# Altium schematic symbol library MCU_SiliconLabs.SchLib: 48 symbols
Pins are listed as number, name and electrical type; pins without a type are passive.

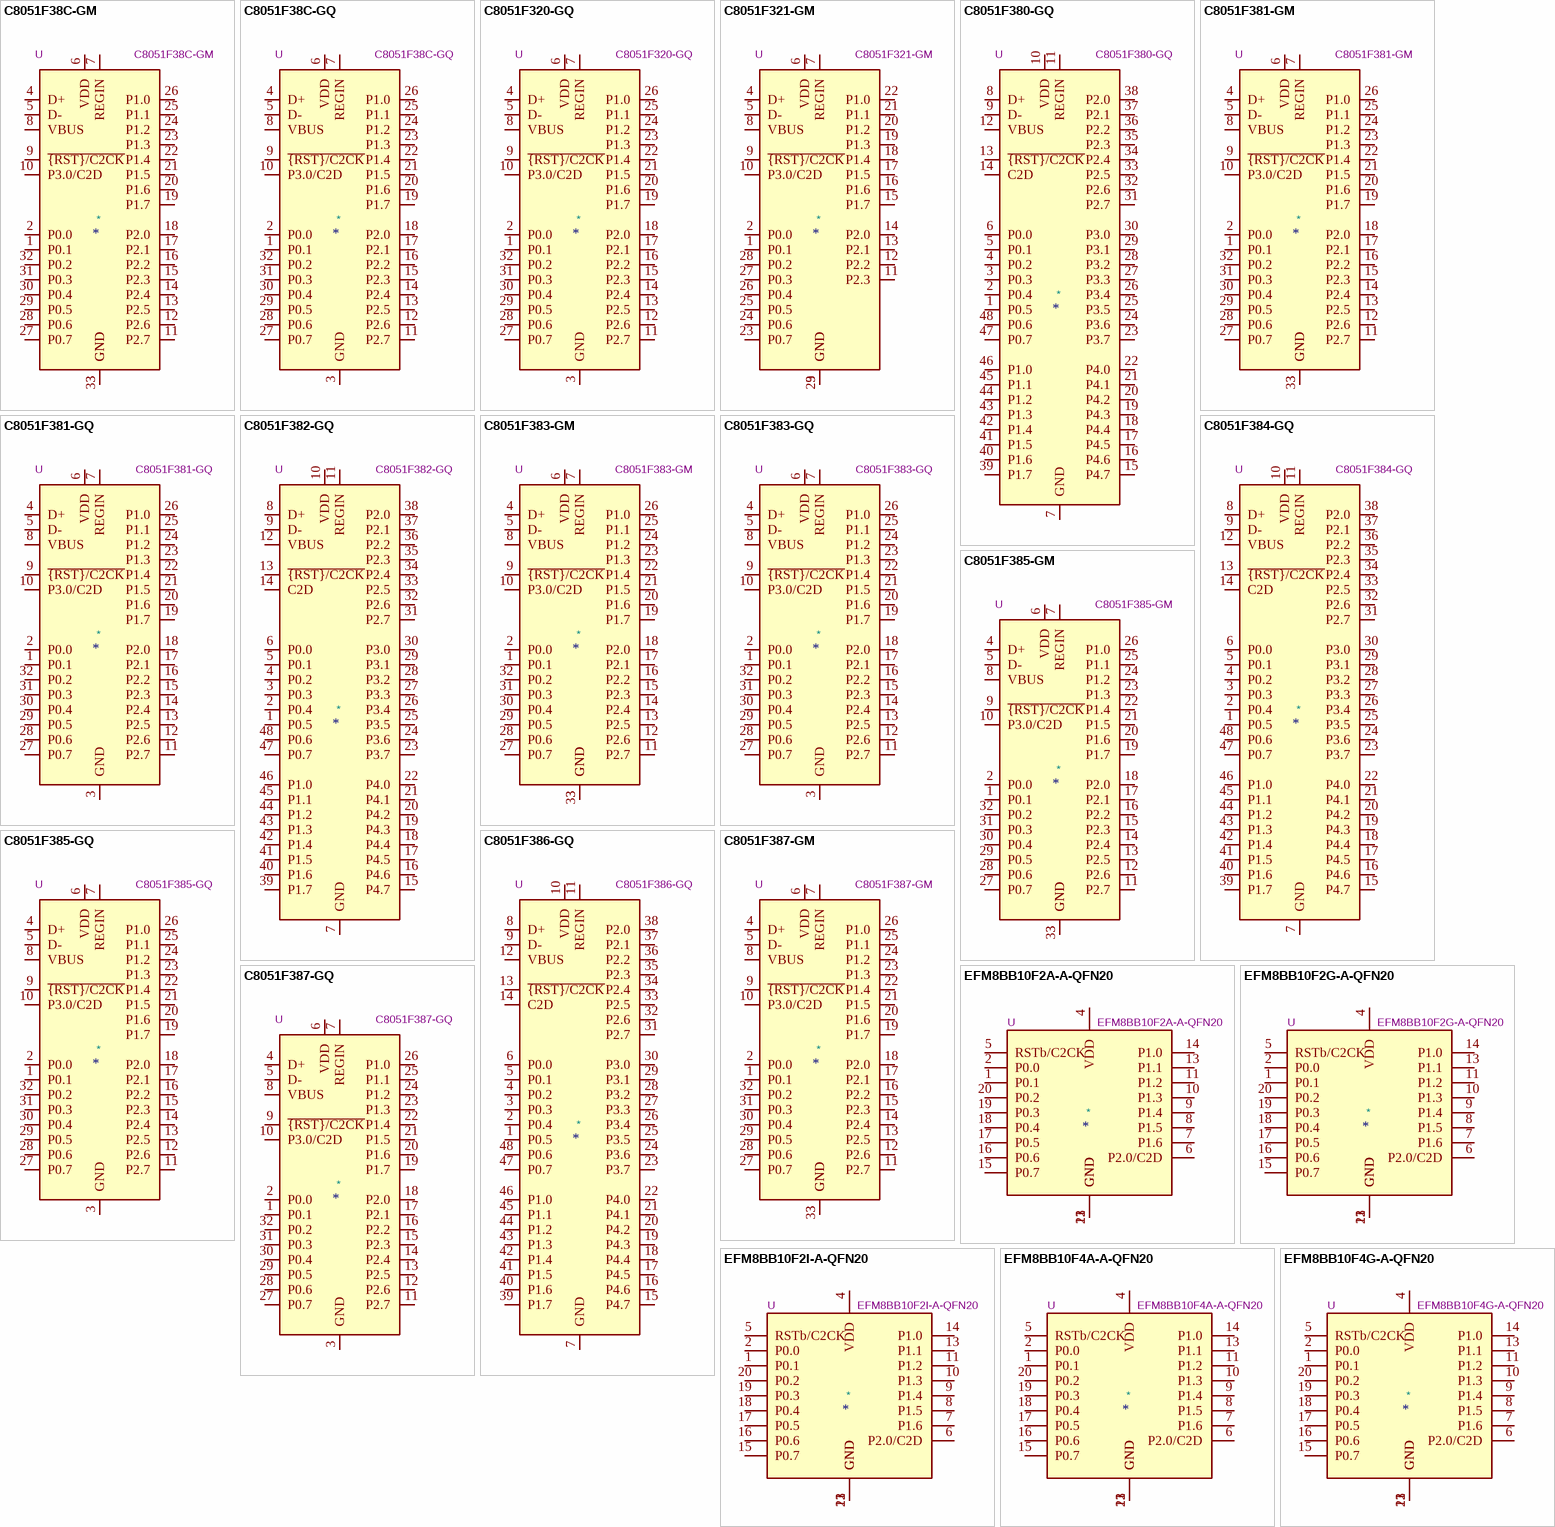
[diagram p0: symbols C8051F38C-GM to EFM8BB10F4G-A-QFN20]

## C8051F38C-GM
designator *  value C8051F38C-GM  Reference: U
Full Speed USB Flash MCU Family, 16k flash, 2304 ram, 25 IO, ADC, Temperature, VREF, QFN-32; ki_keywords: 8051 microcontroller PCA UART USB SPI I2C ADC QFN32; ki_fp_filters: QFN*1EP*5x5mm*P0.5mm*; Footprint: Package_DFN_QFN:QFN-32-1EP_5x5mm_P0.5mm_EP3.3x3.3mm; Datasheet: https://www.silabs.com/documents/public/data-sheets/C8051F38x.pdf; Description_: Full Speed USB Flash MCU Family, 16k flash, 2304 ram, 25 IO, ADC, Temperature, VREF, QFN-32
pins: 1 P0.1, 2 P0.0, 3 GND, 4 D+, 5 D-, 6 VDD, 7 REGIN, 8 VBUS, 9 ~{{RST}/C2CK}, 10 P3.0/C2D, 11 P2.7, 12 P2.6, 13 P2.5, 14 P2.4, 15 P2.3, 16 P2.2, 17 P2.1, 18 P2.0, 19 P1.7, 20 P1.6, 21 P1.5, 22 P1.4, 23 P1.3, 24 P1.2, 25 P1.1, 26 P1.0, 27 P0.7, 28 P0.6, 29 P0.5, 30 P0.4, 31 P0.3, 32 P0.2, 33 GND

## C8051F38C-GQ
designator *  value C8051F38C-GQ  Reference: U
Full Speed USB Flash MCU Family, 16k flash, 2304 ram, 25 IO, ADC, Temperature, VREF, LQFP-32; ki_keywords: 8051 microcontroller PCA UART USB SPI I2C ADC LQFP32; ki_fp_filters: LQFP*7x7mm*P0.8mm*; Footprint: Package_QFP:LQFP-32_7x7mm_P0.8mm; Datasheet: https://www.silabs.com/documents/public/data-sheets/C8051F38x.pdf; Description_: Full Speed USB Flash MCU Family, 16k flash, 2304 ram, 25 IO, ADC, Temperature, VREF, LQFP-32
pins: 1 P0.1, 2 P0.0, 3 GND, 4 D+, 5 D-, 6 VDD, 7 REGIN, 8 VBUS, 9 ~{{RST}/C2CK}, 10 P3.0/C2D, 11 P2.7, 12 P2.6, 13 P2.5, 14 P2.4, 15 P2.3, 16 P2.2, 17 P2.1, 18 P2.0, 19 P1.7, 20 P1.6, 21 P1.5, 22 P1.4, 23 P1.3, 24 P1.2, 25 P1.1, 26 P1.0, 27 P0.7, 28 P0.6, 29 P0.5, 30 P0.4, 31 P0.3, 32 P0.2

## C8051F320-GQ
designator *  value C8051F320-GQ  Reference: U
16 KB ISP FLASH MCU Family with Full Speed USB, 2304 bytes internal RAM, 25 port I/O, 10-bit ADC, built-in temperature sensor, fully compatible with MCS-51 instruction set, LQFP-32; ki_keywords: 8051 microcontroller PCA UART SPI SMbus I2C VREF; ki_fp_filters: *LQFP*7x7mm*P0.8mm*; Footprint: Package_QFP:LQFP-32_7x7mm_P0.8mm; Datasheet: https://www.silabs.com/documents/public/data-sheets/C8051F32x.pdf; Description_: 16 KB ISP FLASH MCU Family with Full Speed USB, 2304 bytes internal RAM, 25 port I/O, 10-bit ADC, built-in temperature sensor, fully compatible with MCS-51 instruction set, LQFP-32
pins: 1 P0.1, 2 P0.0, 3 GND, 4 D+, 5 D-, 6 VDD, 7 REGIN, 8 VBUS, 9 ~{{RST}/C2CK}, 10 P3.0/C2D, 11 P2.7, 12 P2.6, 13 P2.5, 14 P2.4, 15 P2.3, 16 P2.2, 17 P2.1, 18 P2.0, 19 P1.7, 20 P1.6, 21 P1.5, 22 P1.4, 23 P1.3, 24 P1.2, 25 P1.1, 26 P1.0, 27 P0.7, 28 P0.6, 29 P0.5, 30 P0.4, 31 P0.3, 32 P0.2

## C8051F321-GM
designator *  value C8051F321-GM  Reference: U
16 KB ISP FLASH MCU Family with Full Speed USB, 2304 bytes internal RAM, 21 port I/O, 10-bit ADC, built-in temperature sensor, fully compatible with MCS-51 instruction set, QFN-28; ki_keywords: 8051 microcontroller PCA UART SPI SMbus I2C VREF; ki_fp_filters: *QFN*1EP*5x5mm*P0.5mm*EP3.25*; Footprint: Package_DFN_QFN:QFN-28-1EP_5x5mm_P0.5mm_EP3.25x3.25mm; Datasheet: https://www.silabs.com/documents/public/data-sheets/C8051F32x.pdf; Description_: 16 KB ISP FLASH MCU Family with Full Speed USB, 2304 bytes internal RAM, 21 port I/O, 10-bit ADC, built-in temperature sensor, fully compatible with MCS-51 instruction set, QFN-28
pins: 1 P0.1, 2 P0.0, 3 GND, 4 D+, 5 D-, 6 VDD, 7 REGIN, 8 VBUS, 9 ~{{RST}/C2CK}, 10 P3.0/C2D, 11 P2.3, 12 P2.2, 13 P2.1, 14 P2.0, 15 P1.7, 16 P1.6, 17 P1.5, 18 P1.4, 19 P1.3, 20 P1.2, 21 P1.1, 22 P1.0, 23 P0.7, 24 P0.6, 25 P0.5, 26 P0.4, 27 P0.3, 28 P0.2, 29 GND

## C8051F380-GQ
designator *  value C8051F380-GQ  Reference: U
Full Speed USB Flash MCU Family, 64k flash, 4352 ram, 40 IO, EMIF, ADC, Temperature, VREF, TQFP-48; ki_keywords: 8051 microcontroller PCA UART USB SPI I2C ADC EMIF TQFP48; ki_fp_filters: TQFP*7x7mm*P0.5mm*; Footprint: Package_QFP:TQFP-48_7x7mm_P0.5mm; Datasheet: https://www.silabs.com/documents/public/data-sheets/C8051F38x.pdf; Description_: Full Speed USB Flash MCU Family, 64k flash, 4352 ram, 40 IO, EMIF, ADC, Temperature, VREF, TQFP-48
pins: 1 P0.5, 2 P0.4, 3 P0.3, 4 P0.2, 5 P0.1, 6 P0.0, 7 GND, 8 D+, 9 D-, 10 VDD, 11 REGIN, 12 VBUS, 13 ~{{RST}/C2CK}, 14 C2D, 15 P4.7, 16 P4.6, 17 P4.5, 18 P4.4, 19 P4.3, 20 P4.2, 21 P4.1, 22 P4.0, 23 P3.7, 24 P3.6, 25 P3.5, 26 P3.4, 27 P3.3, 28 P3.2, 29 P3.1, 30 P3.0, 31 P2.7, 32 P2.6, 33 P2.5, 34 P2.4, 35 P2.3, 36 P2.2, 37 P2.1, 38 P2.0, 39 P1.7, 40 P1.6, 41 P1.5, 42 P1.4, 43 P1.3, 44 P1.2, 45 P1.1, 46 P1.0, 47 P0.7, 48 P0.6

## C8051F381-GM
designator *  value C8051F381-GM  Reference: U
Full Speed USB Flash MCU Family, 64k flash, 4352 ram, 25 IO, ADC, Temperature, VREF, QFN-32; ki_keywords: 8051 microcontroller PCA UART USB SPI I2C ADC QFN32; ki_fp_filters: QFN*1EP*5x5mm*P0.5mm*; Footprint: Package_DFN_QFN:QFN-32-1EP_5x5mm_P0.5mm_EP3.3x3.3mm; Datasheet: https://www.silabs.com/documents/public/data-sheets/C8051F38x.pdf; Description_: Full Speed USB Flash MCU Family, 64k flash, 4352 ram, 25 IO, ADC, Temperature, VREF, QFN-32
pins: 1 P0.1, 2 P0.0, 3 GND, 4 D+, 5 D-, 6 VDD, 7 REGIN, 8 VBUS, 9 ~{{RST}/C2CK}, 10 P3.0/C2D, 11 P2.7, 12 P2.6, 13 P2.5, 14 P2.4, 15 P2.3, 16 P2.2, 17 P2.1, 18 P2.0, 19 P1.7, 20 P1.6, 21 P1.5, 22 P1.4, 23 P1.3, 24 P1.2, 25 P1.1, 26 P1.0, 27 P0.7, 28 P0.6, 29 P0.5, 30 P0.4, 31 P0.3, 32 P0.2, 33 GND

## C8051F381-GQ
designator *  value C8051F381-GQ  Reference: U
Full Speed USB Flash MCU Family, 64k flash, 4352 ram, 25 IO, ADC, Temperature, VREF, LQFP-32; ki_keywords: 8051 microcontroller PCA UART USB SPI I2C ADC LQFP32; ki_fp_filters: LQFP*7x7mm*P0.8mm*; Footprint: Package_QFP:LQFP-32_7x7mm_P0.8mm; Datasheet: https://www.silabs.com/documents/public/data-sheets/C8051F38x.pdf; Description_: Full Speed USB Flash MCU Family, 64k flash, 4352 ram, 25 IO, ADC, Temperature, VREF, LQFP-32
pins: 1 P0.1, 2 P0.0, 3 GND, 4 D+, 5 D-, 6 VDD, 7 REGIN, 8 VBUS, 9 ~{{RST}/C2CK}, 10 P3.0/C2D, 11 P2.7, 12 P2.6, 13 P2.5, 14 P2.4, 15 P2.3, 16 P2.2, 17 P2.1, 18 P2.0, 19 P1.7, 20 P1.6, 21 P1.5, 22 P1.4, 23 P1.3, 24 P1.2, 25 P1.1, 26 P1.0, 27 P0.7, 28 P0.6, 29 P0.5, 30 P0.4, 31 P0.3, 32 P0.2

## C8051F382-GQ
designator *  value C8051F382-GQ  Reference: U
Full Speed USB Flash MCU Family, 32k flash, 2304 ram, 40 IO, EMIF, ADC, Temperature, VREF, TQFP-48; ki_keywords: 8051 microcontroller PCA UART USB SPI I2C ADC EMIF TQFP48; ki_fp_filters: TQFP*7x7mm*P0.5mm*; Footprint: Package_QFP:TQFP-48_7x7mm_P0.5mm; Datasheet: https://www.silabs.com/documents/public/data-sheets/C8051F38x.pdf; Description_: Full Speed USB Flash MCU Family, 32k flash, 2304 ram, 40 IO, EMIF, ADC, Temperature, VREF, TQFP-48
pins: 1 P0.5, 2 P0.4, 3 P0.3, 4 P0.2, 5 P0.1, 6 P0.0, 7 GND, 8 D+, 9 D-, 10 VDD, 11 REGIN, 12 VBUS, 13 ~{{RST}/C2CK}, 14 C2D, 15 P4.7, 16 P4.6, 17 P4.5, 18 P4.4, 19 P4.3, 20 P4.2, 21 P4.1, 22 P4.0, 23 P3.7, 24 P3.6, 25 P3.5, 26 P3.4, 27 P3.3, 28 P3.2, 29 P3.1, 30 P3.0, 31 P2.7, 32 P2.6, 33 P2.5, 34 P2.4, 35 P2.3, 36 P2.2, 37 P2.1, 38 P2.0, 39 P1.7, 40 P1.6, 41 P1.5, 42 P1.4, 43 P1.3, 44 P1.2, 45 P1.1, 46 P1.0, 47 P0.7, 48 P0.6

## C8051F383-GM
designator *  value C8051F383-GM  Reference: U
Full Speed USB Flash MCU Family, 32k flash, 2304 ram, 25 IO, ADC, Temperature, VREF, QFN-32; ki_keywords: 8051 microcontroller PCA UART USB SPI I2C ADC QFN32; ki_fp_filters: QFN*1EP*5x5mm*P0.5mm*; Footprint: Package_DFN_QFN:QFN-32-1EP_5x5mm_P0.5mm_EP3.3x3.3mm; Datasheet: https://www.silabs.com/documents/public/data-sheets/C8051F38x.pdf; Description_: Full Speed USB Flash MCU Family, 32k flash, 2304 ram, 25 IO, ADC, Temperature, VREF, QFN-32
pins: 1 P0.1, 2 P0.0, 3 GND, 4 D+, 5 D-, 6 VDD, 7 REGIN, 8 VBUS, 9 ~{{RST}/C2CK}, 10 P3.0/C2D, 11 P2.7, 12 P2.6, 13 P2.5, 14 P2.4, 15 P2.3, 16 P2.2, 17 P2.1, 18 P2.0, 19 P1.7, 20 P1.6, 21 P1.5, 22 P1.4, 23 P1.3, 24 P1.2, 25 P1.1, 26 P1.0, 27 P0.7, 28 P0.6, 29 P0.5, 30 P0.4, 31 P0.3, 32 P0.2, 33 GND

## C8051F383-GQ
designator *  value C8051F383-GQ  Reference: U
Full Speed USB Flash MCU Family, 32k flash, 2304 ram, 25 IO, ADC, Temperature, VREF, LQFP-32; ki_keywords: 8051 microcontroller PCA UART USB SPI I2C ADC LQFP32; ki_fp_filters: LQFP*7x7mm*P0.8mm*; Footprint: Package_QFP:LQFP-32_7x7mm_P0.8mm; Datasheet: https://www.silabs.com/documents/public/data-sheets/C8051F38x.pdf; Description_: Full Speed USB Flash MCU Family, 32k flash, 2304 ram, 25 IO, ADC, Temperature, VREF, LQFP-32
pins: 1 P0.1, 2 P0.0, 3 GND, 4 D+, 5 D-, 6 VDD, 7 REGIN, 8 VBUS, 9 ~{{RST}/C2CK}, 10 P3.0/C2D, 11 P2.7, 12 P2.6, 13 P2.5, 14 P2.4, 15 P2.3, 16 P2.2, 17 P2.1, 18 P2.0, 19 P1.7, 20 P1.6, 21 P1.5, 22 P1.4, 23 P1.3, 24 P1.2, 25 P1.1, 26 P1.0, 27 P0.7, 28 P0.6, 29 P0.5, 30 P0.4, 31 P0.3, 32 P0.2

## C8051F384-GQ
designator *  value C8051F384-GQ  Reference: U
Full Speed USB Flash MCU Family, 64k flash, 4352 ram, 40 IO, EMIF, TQFP-48; ki_keywords: 8051 microcontroller PCA UART USB SPI I2C EMIF TQFP48; ki_fp_filters: TQFP*7x7mm*P0.5mm*; Footprint: Package_QFP:TQFP-48_7x7mm_P0.5mm; Datasheet: https://www.silabs.com/documents/public/data-sheets/C8051F38x.pdf; Description_: Full Speed USB Flash MCU Family, 64k flash, 4352 ram, 40 IO, EMIF, TQFP-48
pins: 1 P0.5, 2 P0.4, 3 P0.3, 4 P0.2, 5 P0.1, 6 P0.0, 7 GND, 8 D+, 9 D-, 10 VDD, 11 REGIN, 12 VBUS, 13 ~{{RST}/C2CK}, 14 C2D, 15 P4.7, 16 P4.6, 17 P4.5, 18 P4.4, 19 P4.3, 20 P4.2, 21 P4.1, 22 P4.0, 23 P3.7, 24 P3.6, 25 P3.5, 26 P3.4, 27 P3.3, 28 P3.2, 29 P3.1, 30 P3.0, 31 P2.7, 32 P2.6, 33 P2.5, 34 P2.4, 35 P2.3, 36 P2.2, 37 P2.1, 38 P2.0, 39 P1.7, 40 P1.6, 41 P1.5, 42 P1.4, 43 P1.3, 44 P1.2, 45 P1.1, 46 P1.0, 47 P0.7, 48 P0.6

## C8051F385-GM
designator *  value C8051F385-GM  Reference: U
Full Speed USB Flash MCU Family, 64k flash, 4352 ram, 25 IO, QFN-32; ki_keywords: 8051 microcontroller PCA UART USB SPI I2C QFN32; ki_fp_filters: QFN*1EP*5x5mm*P0.5mm*; Footprint: Package_DFN_QFN:QFN-32-1EP_5x5mm_P0.5mm_EP3.3x3.3mm; Datasheet: https://www.silabs.com/documents/public/data-sheets/C8051F38x.pdf; Description_: Full Speed USB Flash MCU Family, 64k flash, 4352 ram, 25 IO, QFN-32
pins: 1 P0.1, 2 P0.0, 3 GND, 4 D+, 5 D-, 6 VDD, 7 REGIN, 8 VBUS, 9 ~{{RST}/C2CK}, 10 P3.0/C2D, 11 P2.7, 12 P2.6, 13 P2.5, 14 P2.4, 15 P2.3, 16 P2.2, 17 P2.1, 18 P2.0, 19 P1.7, 20 P1.6, 21 P1.5, 22 P1.4, 23 P1.3, 24 P1.2, 25 P1.1, 26 P1.0, 27 P0.7, 28 P0.6, 29 P0.5, 30 P0.4, 31 P0.3, 32 P0.2, 33 GND

## C8051F385-GQ
designator *  value C8051F385-GQ  Reference: U
Full Speed USB Flash MCU Family, 64k flash, 4352 ram, 25 IO, LQFP-32; ki_keywords: 8051 microcontroller PCA UART USB SPI I2C LQFP32; ki_fp_filters: LQFP*7x7mm*P0.8mm*; Footprint: Package_QFP:LQFP-32_7x7mm_P0.8mm; Datasheet: https://www.silabs.com/documents/public/data-sheets/C8051F38x.pdf; Description_: Full Speed USB Flash MCU Family, 64k flash, 4352 ram, 25 IO, LQFP-32
pins: 1 P0.1, 2 P0.0, 3 GND, 4 D+, 5 D-, 6 VDD, 7 REGIN, 8 VBUS, 9 ~{{RST}/C2CK}, 10 P3.0/C2D, 11 P2.7, 12 P2.6, 13 P2.5, 14 P2.4, 15 P2.3, 16 P2.2, 17 P2.1, 18 P2.0, 19 P1.7, 20 P1.6, 21 P1.5, 22 P1.4, 23 P1.3, 24 P1.2, 25 P1.1, 26 P1.0, 27 P0.7, 28 P0.6, 29 P0.5, 30 P0.4, 31 P0.3, 32 P0.2

## C8051F386-GQ
designator *  value C8051F386-GQ  Reference: U
Full Speed USB Flash MCU Family, 32k flash, 2304 ram, 40 IO, EMIF, TQFP-48; ki_keywords: 8051 microcontroller PCA UART USB SPI I2C EMIF TQFP48; ki_fp_filters: TQFP*7x7mm*P0.5mm*; Footprint: Package_QFP:TQFP-48_7x7mm_P0.5mm; Datasheet: https://www.silabs.com/documents/public/data-sheets/C8051F38x.pdf; Description_: Full Speed USB Flash MCU Family, 32k flash, 2304 ram, 40 IO, EMIF, TQFP-48
pins: 1 P0.5, 2 P0.4, 3 P0.3, 4 P0.2, 5 P0.1, 6 P0.0, 7 GND, 8 D+, 9 D-, 10 VDD, 11 REGIN, 12 VBUS, 13 ~{{RST}/C2CK}, 14 C2D, 15 P4.7, 16 P4.6, 17 P4.5, 18 P4.4, 19 P4.3, 20 P4.2, 21 P4.1, 22 P4.0, 23 P3.7, 24 P3.6, 25 P3.5, 26 P3.4, 27 P3.3, 28 P3.2, 29 P3.1, 30 P3.0, 31 P2.7, 32 P2.6, 33 P2.5, 34 P2.4, 35 P2.3, 36 P2.2, 37 P2.1, 38 P2.0, 39 P1.7, 40 P1.6, 41 P1.5, 42 P1.4, 43 P1.3, 44 P1.2, 45 P1.1, 46 P1.0, 47 P0.7, 48 P0.6

## C8051F387-GM
designator *  value C8051F387-GM  Reference: U
Full Speed USB Flash MCU Family, 32k flash, 2304 ram, 25 IO, QFN-32; ki_keywords: 8051 microcontroller PCA UART USB SPI I2C QFN32; ki_fp_filters: QFN*1EP*5x5mm*P0.5mm*; Footprint: Package_DFN_QFN:QFN-32-1EP_5x5mm_P0.5mm_EP3.3x3.3mm; Datasheet: https://www.silabs.com/documents/public/data-sheets/C8051F38x.pdf; Description_: Full Speed USB Flash MCU Family, 32k flash, 2304 ram, 25 IO, QFN-32
pins: 1 P0.1, 2 P0.0, 3 GND, 4 D+, 5 D-, 6 VDD, 7 REGIN, 8 VBUS, 9 ~{{RST}/C2CK}, 10 P3.0/C2D, 11 P2.7, 12 P2.6, 13 P2.5, 14 P2.4, 15 P2.3, 16 P2.2, 17 P2.1, 18 P2.0, 19 P1.7, 20 P1.6, 21 P1.5, 22 P1.4, 23 P1.3, 24 P1.2, 25 P1.1, 26 P1.0, 27 P0.7, 28 P0.6, 29 P0.5, 30 P0.4, 31 P0.3, 32 P0.2, 33 GND

## C8051F387-GQ
designator *  value C8051F387-GQ  Reference: U
Full Speed USB Flash MCU Family, 32k flash, 2304 ram, 25 IO, LQFP-32; ki_keywords: 8051 microcontroller PCA UART USB SPI I2C LQFP32; ki_fp_filters: LQFP*7x7mm*P0.8mm*; Footprint: Package_QFP:LQFP-32_7x7mm_P0.8mm; Datasheet: https://www.silabs.com/documents/public/data-sheets/C8051F38x.pdf; Description_: Full Speed USB Flash MCU Family, 32k flash, 2304 ram, 25 IO, LQFP-32
pins: 1 P0.1, 2 P0.0, 3 GND, 4 D+, 5 D-, 6 VDD, 7 REGIN, 8 VBUS, 9 ~{{RST}/C2CK}, 10 P3.0/C2D, 11 P2.7, 12 P2.6, 13 P2.5, 14 P2.4, 15 P2.3, 16 P2.2, 17 P2.1, 18 P2.0, 19 P1.7, 20 P1.6, 21 P1.5, 22 P1.4, 23 P1.3, 24 P1.2, 25 P1.1, 26 P1.0, 27 P0.7, 28 P0.6, 29 P0.5, 30 P0.4, 31 P0.3, 32 P0.2

## EFM8BB10F2A-A-QFN20
designator *  value EFM8BB10F2A-A-QFN20  Reference: U
8051-compatible microcontroller, 25 MHz, 2.2 to 3.6V, 2K flash, 256B RAM, -40 to +125 C (automotive), QFN20; ki_keywords: 8051 microcontroller PWM UART SPI I2C ADC QFN20 automotive; ki_fp_filters: SiliconLabs*QFN*1EP*3x3mm*P0.5mm*; Footprint: Package_DFN_QFN:SiliconLabs_QFN-20-1EP_3x3mm_P0.5mm_EP1.8x1.8mm; Datasheet: https://www.silabs.com/documents/public/data-sheets/efm8bb1-datasheet.pdf; Description_: 8051-compatible microcontroller, 25 MHz, 2.2 to 3.6V, 2K flash, 256B RAM, -40 to +125 C (automotive), QFN20
pins: 1 P0.1, 2 P0.0, 3 GND, 4 VDD, 5 RSTb/C2CK, 6 P2.0/C2D, 7 P1.6, 8 P1.5, 9 P1.4, 10 P1.3, 11 P1.2, 12 GND, 13 P1.1, 14 P1.0, 15 P0.7, 16 P0.6, 17 P0.5, 18 P0.4, 19 P0.3, 20 P0.2, 21 GND

## EFM8BB10F2G-A-QFN20
designator *  value EFM8BB10F2G-A-QFN20  Reference: U
8051-compatible microcontroller, 25 MHz, 2.2 to 3.6V, 2K flash, 256B RAM, -40 to +85 C, QFN20; ki_keywords: 8051 microcontroller PWM UART SPI I2C ADC QFN20; ki_fp_filters: SiliconLabs*QFN*1EP*3x3mm*P0.5mm*; Footprint: Package_DFN_QFN:SiliconLabs_QFN-20-1EP_3x3mm_P0.5mm_EP1.8x1.8mm; Datasheet: https://www.silabs.com/documents/public/data-sheets/efm8bb1-datasheet.pdf; Description_: 8051-compatible microcontroller, 25 MHz, 2.2 to 3.6V, 2K flash, 256B RAM, -40 to +85 C, QFN20
pins: 1 P0.1, 2 P0.0, 3 GND, 4 VDD, 5 RSTb/C2CK, 6 P2.0/C2D, 7 P1.6, 8 P1.5, 9 P1.4, 10 P1.3, 11 P1.2, 12 GND, 13 P1.1, 14 P1.0, 15 P0.7, 16 P0.6, 17 P0.5, 18 P0.4, 19 P0.3, 20 P0.2, 21 GND

## EFM8BB10F2I-A-QFN20
designator *  value EFM8BB10F2I-A-QFN20  Reference: U
8051-compatible microcontroller, 25 MHz, 2.2 to 3.6V, 2K flash, 256B RAM, -40 to +125 C, QFN20; ki_keywords: 8051 microcontroller PWM UART SPI I2C ADC QFN20; ki_fp_filters: SiliconLabs*QFN*1EP*3x3mm*P0.5mm*; Footprint: Package_DFN_QFN:SiliconLabs_QFN-20-1EP_3x3mm_P0.5mm_EP1.8x1.8mm; Datasheet: https://www.silabs.com/documents/public/data-sheets/efm8bb1-datasheet.pdf; Description_: 8051-compatible microcontroller, 25 MHz, 2.2 to 3.6V, 2K flash, 256B RAM, -40 to +125 C, QFN20
pins: 1 P0.1, 2 P0.0, 3 GND, 4 VDD, 5 RSTb/C2CK, 6 P2.0/C2D, 7 P1.6, 8 P1.5, 9 P1.4, 10 P1.3, 11 P1.2, 12 GND, 13 P1.1, 14 P1.0, 15 P0.7, 16 P0.6, 17 P0.5, 18 P0.4, 19 P0.3, 20 P0.2, 21 GND

## EFM8BB10F4A-A-QFN20
designator *  value EFM8BB10F4A-A-QFN20  Reference: U
8051-compatible microcontroller, 25 MHz, 2.2 to 3.6V, 4K flash, 512B RAM, -40 to +125 C (automotive), QFN20; ki_keywords: 8051 microcontroller PWM UART SPI I2C ADC QFN20 automotive; ki_fp_filters: SiliconLabs*QFN*1EP*3x3mm*P0.5mm*; Footprint: Package_DFN_QFN:SiliconLabs_QFN-20-1EP_3x3mm_P0.5mm_EP1.8x1.8mm; Datasheet: https://www.silabs.com/documents/public/data-sheets/efm8bb1-datasheet.pdf; Description_: 8051-compatible microcontroller, 25 MHz, 2.2 to 3.6V, 4K flash, 512B RAM, -40 to +125 C (automotive), QFN20
pins: 1 P0.1, 2 P0.0, 3 GND, 4 VDD, 5 RSTb/C2CK, 6 P2.0/C2D, 7 P1.6, 8 P1.5, 9 P1.4, 10 P1.3, 11 P1.2, 12 GND, 13 P1.1, 14 P1.0, 15 P0.7, 16 P0.6, 17 P0.5, 18 P0.4, 19 P0.3, 20 P0.2, 21 GND

## EFM8BB10F4G-A-QFN20
designator *  value EFM8BB10F4G-A-QFN20  Reference: U
8051-compatible microcontroller, 25 MHz, 2.2 to 3.6V, 4K flash, 512B RAM, -40 to +85 C, QFN20; ki_keywords: 8051 microcontroller PWM UART SPI I2C ADC QFN20; ki_fp_filters: SiliconLabs*QFN*1EP*3x3mm*P0.5mm*; Footprint: Package_DFN_QFN:SiliconLabs_QFN-20-1EP_3x3mm_P0.5mm_EP1.8x1.8mm; Datasheet: https://www.silabs.com/documents/public/data-sheets/efm8bb1-datasheet.pdf; Description_: 8051-compatible microcontroller, 25 MHz, 2.2 to 3.6V, 4K flash, 512B RAM, -40 to +85 C, QFN20
pins: 1 P0.1, 2 P0.0, 3 GND, 4 VDD, 5 RSTb/C2CK, 6 P2.0/C2D, 7 P1.6, 8 P1.5, 9 P1.4, 10 P1.3, 11 P1.2, 12 GND, 13 P1.1, 14 P1.0, 15 P0.7, 16 P0.6, 17 P0.5, 18 P0.4, 19 P0.3, 20 P0.2, 21 GND

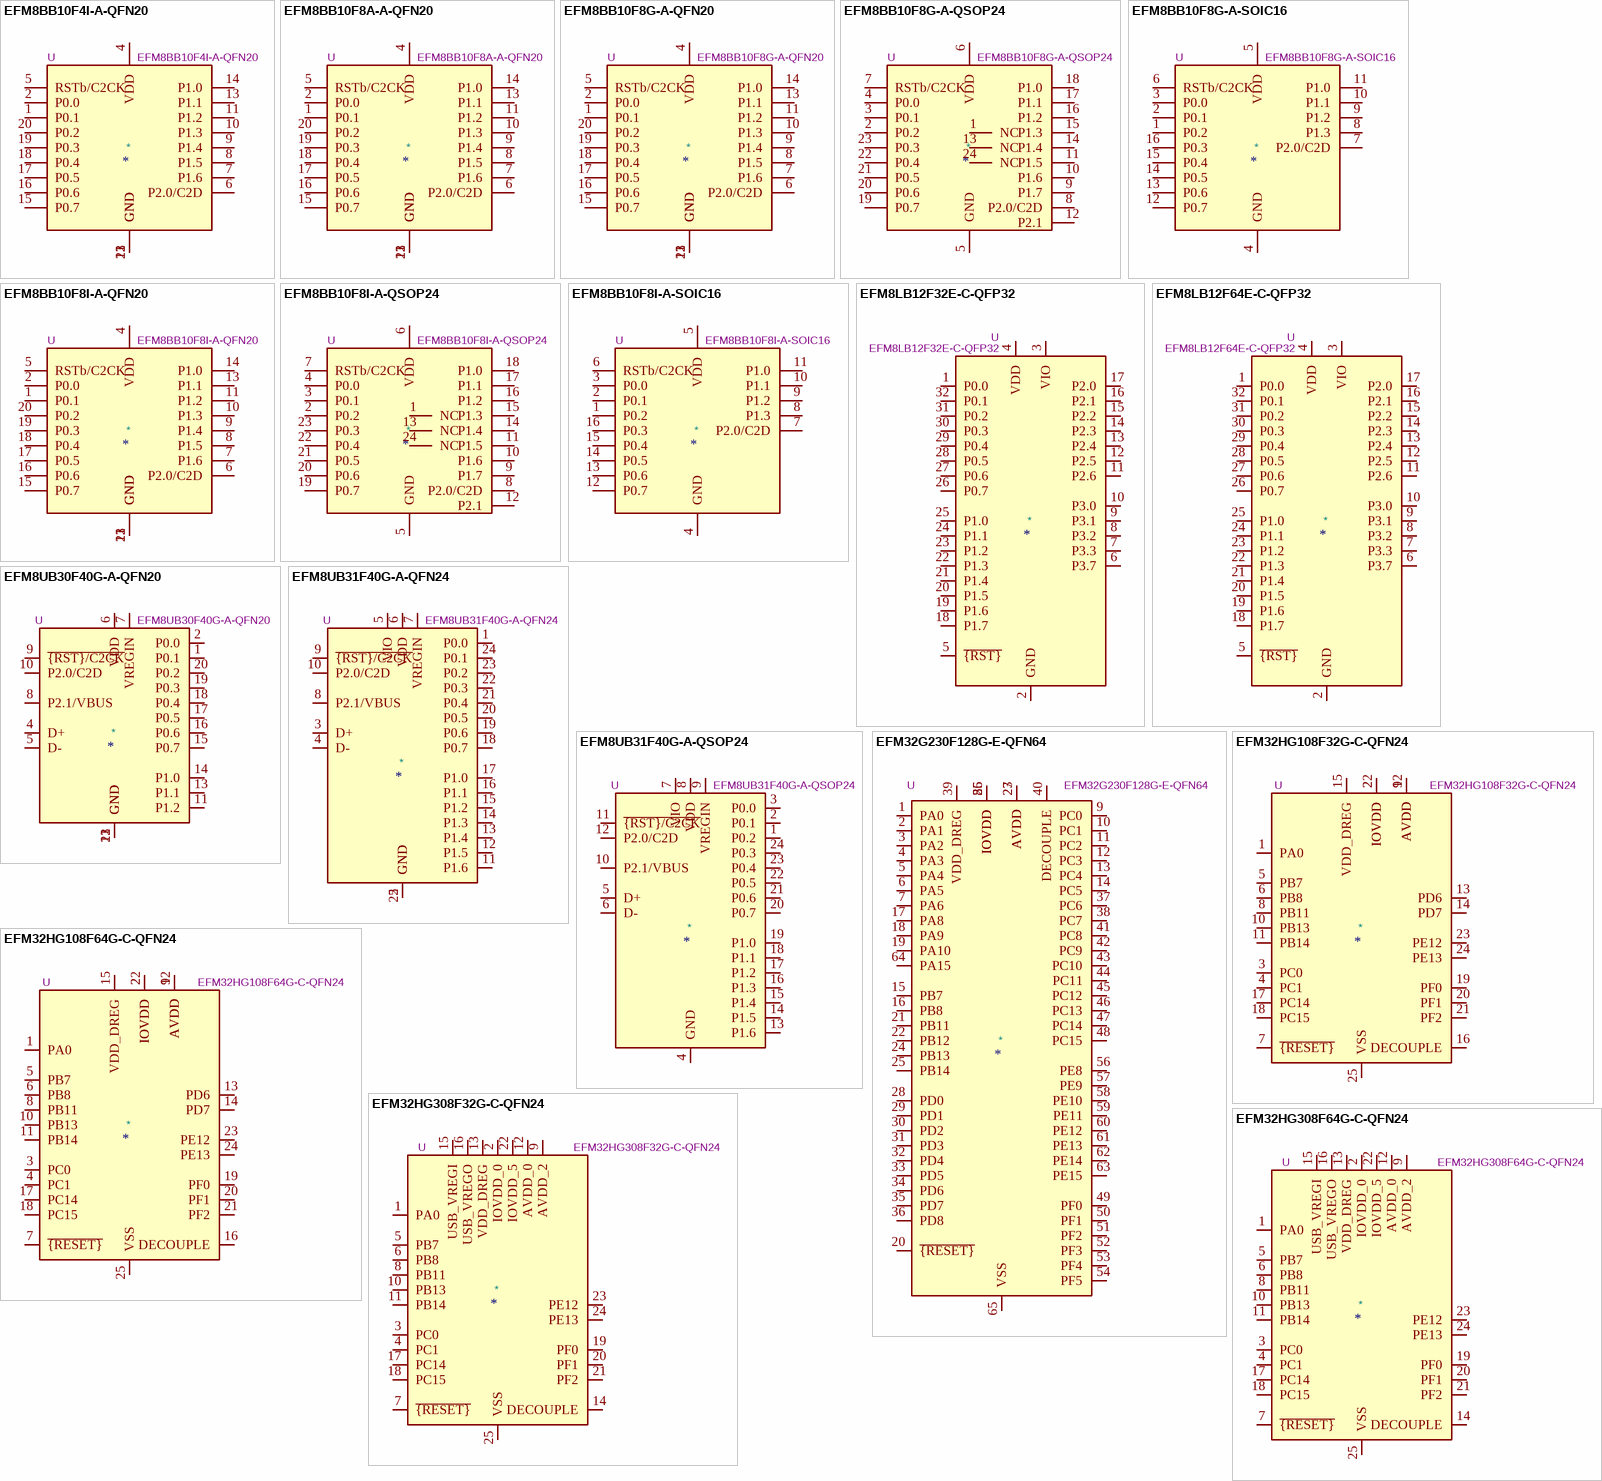
[diagram p1: symbols EFM8BB10F4I-A-QFN20 to EFM32HG308F64G-C-QFN24]

## EFM8BB10F4I-A-QFN20
designator *  value EFM8BB10F4I-A-QFN20  Reference: U
8051-compatible microcontroller, 25 MHz, 2.2 to 3.6V, 4K flash, 512B RAM, -40 to +125 C, QFN20; ki_keywords: 8051 microcontroller PWM UART SPI I2C ADC QFN20; ki_fp_filters: SiliconLabs*QFN*1EP*3x3mm*P0.5mm*; Footprint: Package_DFN_QFN:SiliconLabs_QFN-20-1EP_3x3mm_P0.5mm_EP1.8x1.8mm; Datasheet: https://www.silabs.com/documents/public/data-sheets/efm8bb1-datasheet.pdf; Description_: 8051-compatible microcontroller, 25 MHz, 2.2 to 3.6V, 4K flash, 512B RAM, -40 to +125 C, QFN20
pins: 1 P0.1, 2 P0.0, 3 GND, 4 VDD, 5 RSTb/C2CK, 6 P2.0/C2D, 7 P1.6, 8 P1.5, 9 P1.4, 10 P1.3, 11 P1.2, 12 GND, 13 P1.1, 14 P1.0, 15 P0.7, 16 P0.6, 17 P0.5, 18 P0.4, 19 P0.3, 20 P0.2, 21 GND

## EFM8BB10F8A-A-QFN20
designator *  value EFM8BB10F8A-A-QFN20  Reference: U
8051-compatible microcontroller, 25 MHz, 2.2 to 3.6V, 8K flash, 512B RAM, -40 to +125 C (automotive), QFN20; ki_keywords: 8051 microcontroller PWM UART SPI I2C ADC QFN20 automotive; ki_fp_filters: SiliconLabs*QFN*1EP*3x3mm*P0.5mm*; Footprint: Package_DFN_QFN:SiliconLabs_QFN-20-1EP_3x3mm_P0.5mm_EP1.8x1.8mm; Datasheet: https://www.silabs.com/documents/public/data-sheets/efm8bb1-datasheet.pdf; Description_: 8051-compatible microcontroller, 25 MHz, 2.2 to 3.6V, 8K flash, 512B RAM, -40 to +125 C (automotive), QFN20
pins: 1 P0.1, 2 P0.0, 3 GND, 4 VDD, 5 RSTb/C2CK, 6 P2.0/C2D, 7 P1.6, 8 P1.5, 9 P1.4, 10 P1.3, 11 P1.2, 12 GND, 13 P1.1, 14 P1.0, 15 P0.7, 16 P0.6, 17 P0.5, 18 P0.4, 19 P0.3, 20 P0.2, 21 GND

## EFM8BB10F8G-A-QFN20
designator *  value EFM8BB10F8G-A-QFN20  Reference: U
8051-compatible microcontroller, 25 MHz, 2.2 to 3.6V, 8K flash, 512B RAM, -40 to +85 C, QFN20; ki_keywords: 8051 microcontroller PWM UART SPI I2C ADC QFN20; ki_fp_filters: SiliconLabs*QFN*1EP*3x3mm*P0.5mm*; Footprint: Package_DFN_QFN:SiliconLabs_QFN-20-1EP_3x3mm_P0.5mm_EP1.8x1.8mm; Datasheet: https://www.silabs.com/documents/public/data-sheets/efm8bb1-datasheet.pdf; Description_: 8051-compatible microcontroller, 25 MHz, 2.2 to 3.6V, 8K flash, 512B RAM, -40 to +85 C, QFN20
pins: 1 P0.1, 2 P0.0, 3 GND, 4 VDD, 5 RSTb/C2CK, 6 P2.0/C2D, 7 P1.6, 8 P1.5, 9 P1.4, 10 P1.3, 11 P1.2, 12 GND, 13 P1.1, 14 P1.0, 15 P0.7, 16 P0.6, 17 P0.5, 18 P0.4, 19 P0.3, 20 P0.2, 21 GND

## EFM8BB10F8G-A-QSOP24
designator *  value EFM8BB10F8G-A-QSOP24  Reference: U
8051-compatible microcontroller, 25 MHz, 2.2 to 3.6V, 8K flash, 512B RAM, -40 to +85 C, QSOP24; ki_keywords: 8051 microcontroller PWM UART SPI I2C ADC QSOP24; ki_fp_filters: QSOP*P0.635mm*; Footprint: Package_SO:QSOP-24_3.9x8.7mm_P0.635mm; Datasheet: https://www.silabs.com/documents/public/data-sheets/efm8bb1-datasheet.pdf; Description_: 8051-compatible microcontroller, 25 MHz, 2.2 to 3.6V, 8K flash, 512B RAM, -40 to +85 C, QSOP24
pins: 1 NC, 2 P0.2, 3 P0.1, 4 P0.0, 5 GND, 6 VDD, 7 RSTb/C2CK, 8 P2.0/C2D, 9 P1.7, 10 P1.6, 11 P1.5, 12 P2.1, 13 NC, 14 P1.4, 15 P1.3, 16 P1.2, 17 P1.1, 18 P1.0, 19 P0.7, 20 P0.6, 21 P0.5, 22 P0.4, 23 P0.3, 24 NC

## EFM8BB10F8G-A-SOIC16
designator *  value EFM8BB10F8G-A-SOIC16  Reference: U
8051-compatible microcontroller, 25 MHz, 2.2 to 3.6V, 8K flash, 512B RAM, -40 to +85 C, SOIC16; ki_keywords: 8051 microcontroller PWM UART SPI I2C ADC SOIC16; ki_fp_filters: SOIC*3.9x9.9mm*P1.27mm*; Footprint: Package_SO:SOIC-16_3.9x9.9mm_P1.27mm; Datasheet: https://www.silabs.com/documents/public/data-sheets/efm8bb1-datasheet.pdf; Description_: 8051-compatible microcontroller, 25 MHz, 2.2 to 3.6V, 8K flash, 512B RAM, -40 to +85 C, SOIC16
pins: 1 P0.2, 2 P0.1, 3 P0.0, 4 GND, 5 VDD, 6 RSTb/C2CK, 7 P2.0/C2D, 8 P1.3, 9 P1.2, 10 P1.1, 11 P1.0, 12 P0.7, 13 P0.6, 14 P0.5, 15 P0.4, 16 P0.3

## EFM8BB10F8I-A-QFN20
designator *  value EFM8BB10F8I-A-QFN20  Reference: U
8051-compatible microcontroller, 25 MHz, 2.2 to 3.6V, 8K flash, 512B RAM, -40 to +125 C, QFN20; ki_keywords: 8051 microcontroller PWM UART SPI I2C ADC QFN20; ki_fp_filters: SiliconLabs*QFN*1EP*3x3mm*P0.5mm*; Footprint: Package_DFN_QFN:SiliconLabs_QFN-20-1EP_3x3mm_P0.5mm_EP1.8x1.8mm; Datasheet: https://www.silabs.com/documents/public/data-sheets/efm8bb1-datasheet.pdf; Description_: 8051-compatible microcontroller, 25 MHz, 2.2 to 3.6V, 8K flash, 512B RAM, -40 to +125 C, QFN20
pins: 1 P0.1, 2 P0.0, 3 GND, 4 VDD, 5 RSTb/C2CK, 6 P2.0/C2D, 7 P1.6, 8 P1.5, 9 P1.4, 10 P1.3, 11 P1.2, 12 GND, 13 P1.1, 14 P1.0, 15 P0.7, 16 P0.6, 17 P0.5, 18 P0.4, 19 P0.3, 20 P0.2, 21 GND

## EFM8BB10F8I-A-QSOP24
designator *  value EFM8BB10F8I-A-QSOP24  Reference: U
8051-compatible microcontroller, 25 MHz, 2.2 to 3.6V, 8K flash, 512B RAM, -40 to +125 C, QSOP24; ki_keywords: 8051 microcontroller PWM UART SPI I2C ADC QSOP24; ki_fp_filters: QSOP*P0.635mm*; Footprint: Package_SO:QSOP-24_3.9x8.7mm_P0.635mm; Datasheet: https://www.silabs.com/documents/public/data-sheets/efm8bb1-datasheet.pdf; Description_: 8051-compatible microcontroller, 25 MHz, 2.2 to 3.6V, 8K flash, 512B RAM, -40 to +125 C, QSOP24
pins: 1 NC, 2 P0.2, 3 P0.1, 4 P0.0, 5 GND, 6 VDD, 7 RSTb/C2CK, 8 P2.0/C2D, 9 P1.7, 10 P1.6, 11 P1.5, 12 P2.1, 13 NC, 14 P1.4, 15 P1.3, 16 P1.2, 17 P1.1, 18 P1.0, 19 P0.7, 20 P0.6, 21 P0.5, 22 P0.4, 23 P0.3, 24 NC

## EFM8BB10F8I-A-SOIC16
designator *  value EFM8BB10F8I-A-SOIC16  Reference: U
8051-compatible microcontroller, 25 MHz, 2.2 to 3.6V, 8K flash, 512B RAM, -40 to +125 C, SOIC16; ki_keywords: 8051 microcontroller PWM UART SPI I2C ADC SOIC16; ki_fp_filters: SOIC*3.9x9.9mm*P1.27mm*; Footprint: Package_SO:SOIC-16_3.9x9.9mm_P1.27mm; Datasheet: https://www.silabs.com/documents/public/data-sheets/efm8bb1-datasheet.pdf; Description_: 8051-compatible microcontroller, 25 MHz, 2.2 to 3.6V, 8K flash, 512B RAM, -40 to +125 C, SOIC16
pins: 1 P0.2, 2 P0.1, 3 P0.0, 4 GND, 5 VDD, 6 RSTb/C2CK, 7 P2.0/C2D, 8 P1.3, 9 P1.2, 10 P1.1, 11 P1.0, 12 P0.7, 13 P0.6, 14 P0.5, 15 P0.4, 16 P0.3

## EFM8LB12F32E-C-QFP32
designator *  value EFM8LB12F32E-C-QFP32  Reference: U
8051-compatible microcontroller, 72 MHz, 2.2 to 3.6V, 32K flash, 2304B RAM, -40 to +105 C, QFP-32; ki_keywords: 8051 microcontroller; ki_fp_filters: LQFP*7x7mm*P0.8mm*; Footprint: Package_QFP:LQFP-32_7x7mm_P0.8mm; Datasheet: https://www.silabs.com/documents/public/data-sheets/efm8lb1-datasheet.pdf; Description_: 8051-compatible microcontroller, 72 MHz, 2.2 to 3.6V, 32K flash, 2304B RAM, -40 to +105 C, QFP-32
pins: 1 P0.0, 2 GND, 3 VIO, 4 VDD, 5 ~{{RST}}, 6 P3.7, 7 P3.3, 8 P3.2, 9 P3.1, 10 P3.0, 11 P2.6, 12 P2.5, 13 P2.4, 14 P2.3, 15 P2.2, 16 P2.1, 17 P2.0, 18 P1.7, 19 P1.6, 20 P1.5, 21 P1.4, 22 P1.3, 23 P1.2, 24 P1.1, 25 P1.0, 26 P0.7, 27 P0.6, 28 P0.5, 29 P0.4, 30 P0.3, 31 P0.2, 32 P0.1

## EFM8LB12F64E-C-QFP32
designator *  value EFM8LB12F64E-C-QFP32  Reference: U
8051-compatible microcontroller, 72 MHz, 2.2 to 3.6V, 64K flash, 2304B RAM, -40 to +105 C, QFP-32; ki_keywords: 8051 microcontroller; ki_fp_filters: LQFP*7x7mm*P0.8mm*; Footprint: Package_QFP:LQFP-32_7x7mm_P0.8mm; Datasheet: https://www.silabs.com/documents/public/data-sheets/efm8lb1-datasheet.pdf; Description_: 8051-compatible microcontroller, 72 MHz, 2.2 to 3.6V, 64K flash, 2304B RAM, -40 to +105 C, QFP-32
pins: 1 P0.0, 2 GND, 3 VIO, 4 VDD, 5 ~{{RST}}, 6 P3.7, 7 P3.3, 8 P3.2, 9 P3.1, 10 P3.0, 11 P2.6, 12 P2.5, 13 P2.4, 14 P2.3, 15 P2.2, 16 P2.1, 17 P2.0, 18 P1.7, 19 P1.6, 20 P1.5, 21 P1.4, 22 P1.3, 23 P1.2, 24 P1.1, 25 P1.0, 26 P0.7, 27 P0.6, 28 P0.5, 29 P0.4, 30 P0.3, 31 P0.2, 32 P0.1

## EFM8UB30F40G-A-QFN20
designator *  value EFM8UB30F40G-A-QFN20  Reference: U
8051-compatible microcontroller, 48 MHz, 2.3 to 5.5V, 40K flash, 3.25K RAM, -40 to +85 C, QFN-20; ki_keywords: 8051 microcontroller PWM UART SPI I2C USB LDOREG ADC QFN20; ki_fp_filters: SiliconLabs*QFN*1EP*3x3mm*P0.5mm*; Footprint: Package_DFN_QFN:SiliconLabs_QFN-20-1EP_3x3mm_P0.5mm_EP1.8x1.8mm; Datasheet: https://www.silabs.com/documents/public/data-sheets/efm8ub3-datasheet.pdf; Description_: 8051-compatible microcontroller, 48 MHz, 2.3 to 5.5V, 40K flash, 3.25K RAM, -40 to +85 C, QFN-20
pins: 1 P0.1, 2 P0.0, 3 GND, 4 D+, 5 D-, 6 VDD, 7 VREGIN, 8 P2.1/VBUS, 9 ~{{RST}/C2CK}, 10 P2.0/C2D, 11 P1.2, 12 GND, 13 P1.1, 14 P1.0, 15 P0.7, 16 P0.6, 17 P0.5, 18 P0.4, 19 P0.3, 20 P0.2, 21 GND

## EFM8UB31F40G-A-QFN24
designator *  value EFM8UB31F40G-A-QFN24  Reference: U
8051-compatible microcontroller, 48 MHz, 2.3 to 5.5V, 40K flash, 3.25K RAM, -40 to +85 C, QFN-24; ki_keywords: 8051 microcontroller PWM UART SPI I2C USB LDOREG ADC QFN24; ki_fp_filters: QFN*1EP*4x4mm*P0.5mm*; Footprint: Package_DFN_QFN:QFN-24-1EP_4x4mm_P0.5mm_EP2.6x2.6mm; Datasheet: https://www.silabs.com/documents/public/data-sheets/efm8ub3-datasheet.pdf; Description_: 8051-compatible microcontroller, 48 MHz, 2.3 to 5.5V, 40K flash, 3.25K RAM, -40 to +85 C, QFN-24
pins: 1 P0.0, 2 GND, 3 D+, 4 D-, 5 VIO, 6 VDD, 7 VREGIN, 8 P2.1/VBUS, 9 ~{{RST}/C2CK}, 10 P2.0/C2D, 11 P1.6, 12 P1.5, 13 P1.4, 14 P1.3, 15 P1.2, 16 P1.1, 17 P1.0, 18 P0.7, 19 P0.6, 20 P0.5, 21 P0.4, 22 P0.3, 23 P0.2, 24 P0.1, 25 GND

## EFM8UB31F40G-A-QSOP24
designator *  value EFM8UB31F40G-A-QSOP24  Reference: U
8051-compatible microcontroller, 48 MHz, 2.3 to 5.5V, 40K flash, 3.25K RAM, -40 to +85 C, QSOP-24; ki_keywords: 8051 microcontroller PWM UART SPI I2C USB LDOREG ADC QSOP24; ki_fp_filters: QSOP*3.9x8.7mm*P0.635mm*; Footprint: Package_SO:QSOP-24_3.9x8.7mm_P0.635mm; Datasheet: https://www.silabs.com/documents/public/data-sheets/efm8ub3-datasheet.pdf; Description_: 8051-compatible microcontroller, 48 MHz, 2.3 to 5.5V, 40K flash, 3.25K RAM, -40 to +85 C, QSOP-24
pins: 1 P0.2, 2 P0.1, 3 P0.0, 4 GND, 5 D+, 6 D-, 7 VIO, 8 VDD, 9 VREGIN, 10 P2.1/VBUS, 11 ~{{RST}/C2CK}, 12 P2.0/C2D, 13 P1.6, 14 P1.5, 15 P1.4, 16 P1.3, 17 P1.2, 18 P1.1, 19 P1.0, 20 P0.7, 21 P0.6, 22 P0.5, 23 P0.4, 24 P0.3

## EFM32G230F128G-E-QFN64
designator *  value EFM32G230F128G-E-QFN64  Reference: U
32-bit ARM Cortex-M3 microcontroller, 128 kB flash, 16 kB x 8 RAM, Silicon Labs - Gecko, QFN-64; ki_keywords: MCU microcontroller silicon labs siliconlabs silabs EFM32 gecko; ki_fp_filters: QFN*1EP*9x9mm*P0.5mm*; Footprint: Package_DFN_QFN:QFN-64-1EP_9x9mm_P0.5mm_EP7.3x7.3mm; Datasheet: https://www.silabs.com/documents/public/data-sheets/efm32g-datasheet.pdf; Description_: 32-bit ARM Cortex-M3 microcontroller, 128 kB flash, 16 kB x 8 RAM, Silicon Labs - Gecko, QFN-64
pins: 1 PA0, 2 PA1, 3 PA2, 4 PA3, 5 PA4, 6 PA5, 7 PA6, 8 IOVDD, 9 PC0, 10 PC1, 11 PC2, 12 PC3, 13 PC4, 14 PC5, 15 PB7, 16 PB8, 17 PA8, 18 PA9, 19 PA10, 20 ~{{RESET}}, 21 PB11, 22 PB12, 23 AVDD, 24 PB13, 25 PB14, 26 IOVDD, 27 AVDD, 28 PD0, 29 PD1, 30 PD2, 31 PD3, 32 PD4, 33 PD5, 34 PD6, 35 PD7, 36 PD8, 37 PC6, 38 PC7, 39 VDD_DREG, 40 DECOUPLE, 41 PC8, 42 PC9, 43 PC10, 44 PC11, 45 PC12, 46 PC13, 47 PC14, 48 PC15, 49 PF0, 50 PF1, 51 PF2, 52 PF3, 53 PF4, 54 PF5, 55 IOVDD, 56 PE8, 57 PE9, 58 PE10, 59 PE11, 60 PE12, 61 PE13, 62 PE14, 63 PE15, 64 PA15, 65 VSS

## EFM32HG108F32G-C-QFN24
designator *  value EFM32HG108F32G-C-QFN24  Reference: U
32-bit ARM Cortex-M0 microcontroller, 32 kB flash, 4 kB  RAM, Silicon Labs - Happy Gecko, QFN-24; ki_keywords: MCU microcontroller silicon labs siliconlabs silabs EFM32 happy gecko; ki_fp_filters: QFN*1EP*5x5mm*P0.65mm*; Footprint: Package_DFN_QFN:QFN-24-1EP_5x5mm_P0.65mm_EP3.6x3.6mm; Datasheet: https://www.silabs.com/documents/public/data-sheets/efm32hg-datasheet.pdf; Description_: 32-bit ARM Cortex-M0 microcontroller, 32 kB flash, 4 kB  RAM, Silicon Labs - Happy Gecko, QFN-24
pins: 1 PA0, 2 IOVDD, 3 PC0, 4 PC1, 5 PB7, 6 PB8, 7 ~{{RESET}}, 8 PB11, 9 AVDD, 10 PB13, 11 PB14, 12 AVDD, 13 PD6, 14 PD7, 15 VDD_DREG, 16 DECOUPLE, 17 PC14, 18 PC15, 19 PF0, 20 PF1, 21 PF2, 22 IOVDD, 23 PE12, 24 PE13, 25 VSS

## EFM32HG108F64G-C-QFN24
designator *  value EFM32HG108F64G-C-QFN24  Reference: U
32-bit ARM Cortex-M0 microcontroller, 64 kB flash, 4 kB  RAM, Silicon Labs - Happy Gecko, QFN-24; ki_keywords: MCU microcontroller silicon labs siliconlabs silabs EFM32 happy gecko; ki_fp_filters: QFN*1EP*5x5mm*P0.65mm*; Footprint: Package_DFN_QFN:QFN-24-1EP_5x5mm_P0.65mm_EP3.6x3.6mm; Datasheet: https://www.silabs.com/documents/public/data-sheets/efm32hg-datasheet.pdf; Description_: 32-bit ARM Cortex-M0 microcontroller, 64 kB flash, 4 kB  RAM, Silicon Labs - Happy Gecko, QFN-24
pins: 1 PA0, 2 IOVDD, 3 PC0, 4 PC1, 5 PB7, 6 PB8, 7 ~{{RESET}}, 8 PB11, 9 AVDD, 10 PB13, 11 PB14, 12 AVDD, 13 PD6, 14 PD7, 15 VDD_DREG, 16 DECOUPLE, 17 PC14, 18 PC15, 19 PF0, 20 PF1, 21 PF2, 22 IOVDD, 23 PE12, 24 PE13, 25 VSS

## EFM32HG308F32G-C-QFN24
designator *  value EFM32HG308F32G-C-QFN24  Reference: U
32-bit ARM Cortex-M0 microcontroller, 32 kB flash, 4 kB  RAM, Silicon Labs - Happy Gecko, QFN-24; ki_keywords: MCU microcontroller silicon labs siliconlabs silabs EFM32 happy gecko; ki_fp_filters: QFN*1EP*5x5mm*P0.65mm*; Footprint: Package_DFN_QFN:QFN-24-1EP_5x5mm_P0.65mm_EP3.6x3.6mm; Datasheet: https://www.silabs.com/documents/public/data-sheets/efm32hg-datasheet.pdf; Description_: 32-bit ARM Cortex-M0 microcontroller, 32 kB flash, 4 kB  RAM, Silicon Labs - Happy Gecko, QFN-24
pins: 1 PA0, 2 IOVDD_0, 3 PC0, 4 PC1, 5 PB7, 6 PB8, 7 ~{{RESET}}, 8 PB11, 9 AVDD_2, 10 PB13, 11 PB14, 12 AVDD_0, 13 VDD_DREG, 14 DECOUPLE, 15 USB_VREGI, 16 USB_VREGO, 17 PC14, 18 PC15, 19 PF0, 20 PF1, 21 PF2, 22 IOVDD_5, 23 PE12, 24 PE13, 25 VSS

## EFM32HG308F64G-C-QFN24
designator *  value EFM32HG308F64G-C-QFN24  Reference: U
32-bit ARM Cortex-M0 microcontroller, 64 kB flash, 4 kB  RAM, Silicon Labs - Happy Gecko, QFN-24; ki_keywords: MCU microcontroller silicon labs siliconlabs silabs EFM32 happy gecko; ki_fp_filters: QFN*1EP*5x5mm*P0.65mm*; Footprint: Package_DFN_QFN:QFN-24-1EP_5x5mm_P0.65mm_EP3.6x3.6mm; Datasheet: https://www.silabs.com/documents/public/data-sheets/efm32hg-datasheet.pdf; Description_: 32-bit ARM Cortex-M0 microcontroller, 64 kB flash, 4 kB  RAM, Silicon Labs - Happy Gecko, QFN-24
pins: 1 PA0, 2 IOVDD_0, 3 PC0, 4 PC1, 5 PB7, 6 PB8, 7 ~{{RESET}}, 8 PB11, 9 AVDD_2, 10 PB13, 11 PB14, 12 AVDD_0, 13 VDD_DREG, 14 DECOUPLE, 15 USB_VREGI, 16 USB_VREGO, 17 PC14, 18 PC15, 19 PF0, 20 PF1, 21 PF2, 22 IOVDD_5, 23 PE12, 24 PE13, 25 VSS

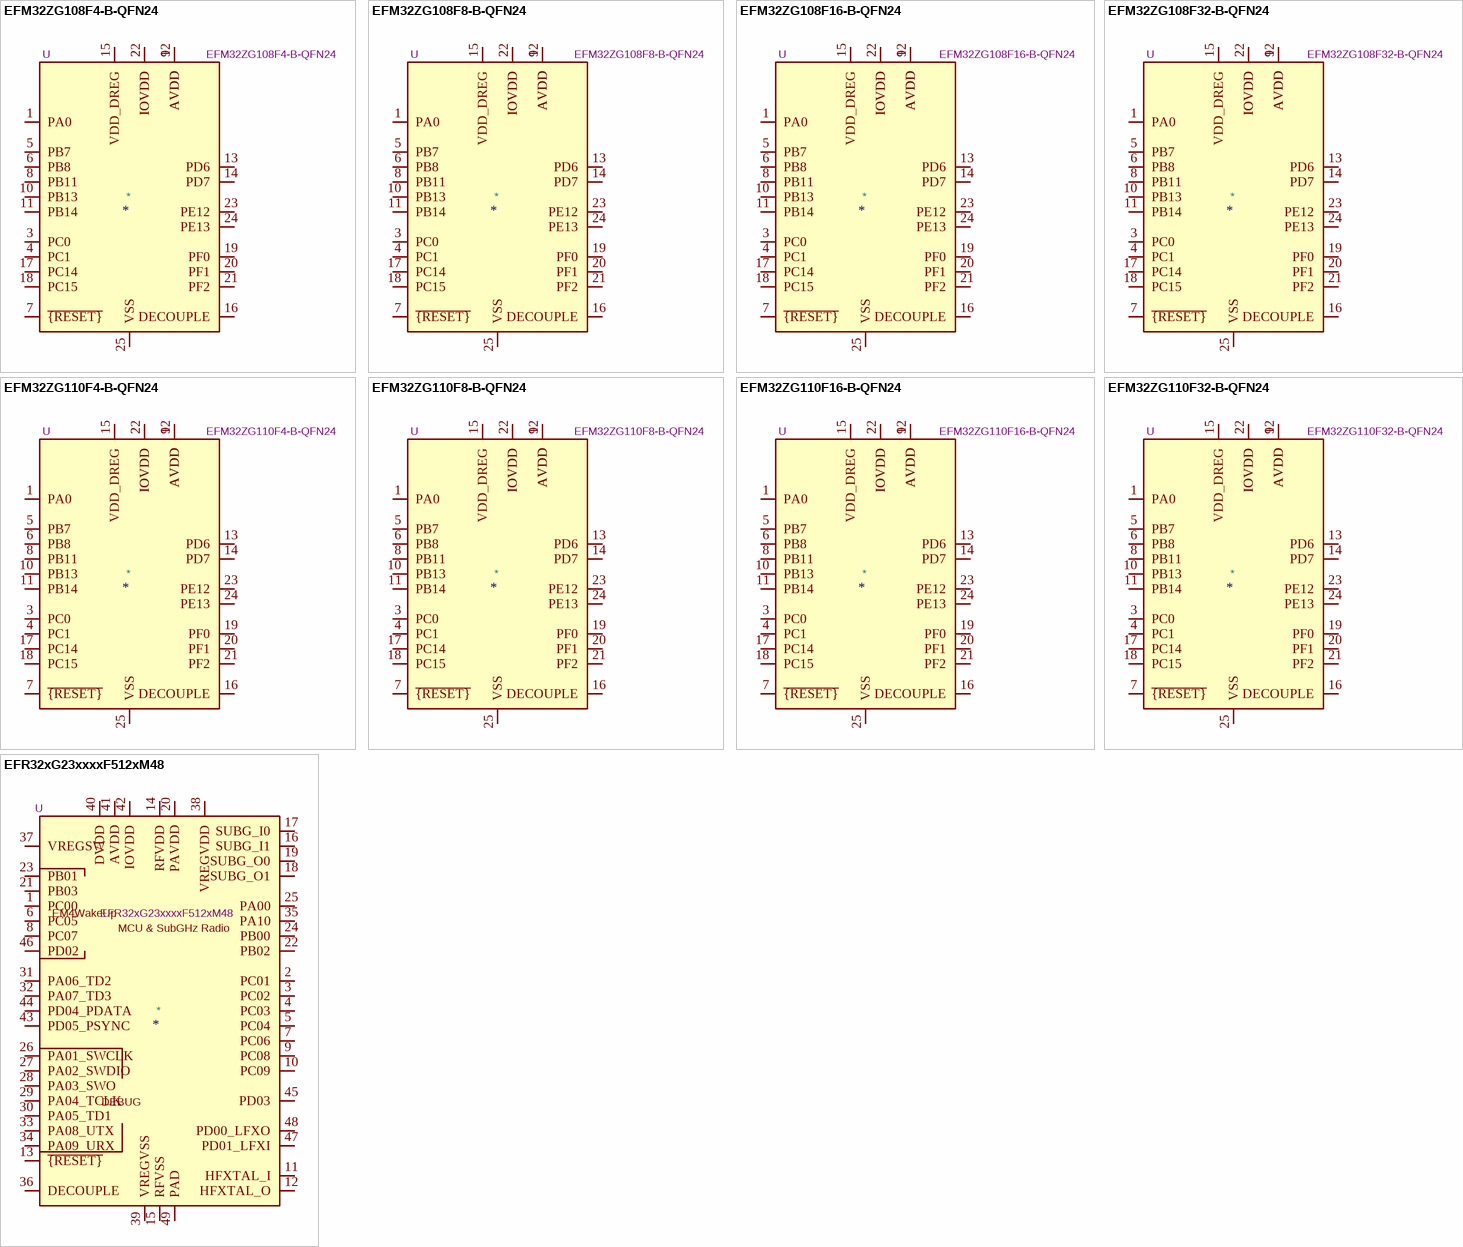
[diagram p2: symbols EFM32ZG108F4-B-QFN24 to EFR32xG23xxxxF512xM48]

## EFM32ZG108F4-B-QFN24
designator *  value EFM32ZG108F4-B-QFN24  Reference: U
32-bit ARM Cortex-M0 microcontroller, 4 kB flash, 2 kB  RAM, Silicon Labs - Zero Gecko, QFN-24; ki_keywords: MCU microcontroller silicon labs siliconlabs silabs EFM32 zero gecko; ki_fp_filters: QFN*1EP*5x5mm*P0.65mm*; Footprint: Package_DFN_QFN:QFN-24-1EP_5x5mm_P0.65mm_EP3.6x3.6mm; Datasheet: https://www.silabs.com/documents/public/data-sheets/efm32zg-datasheet.pdf; Description_: 32-bit ARM Cortex-M0 microcontroller, 4 kB flash, 2 kB  RAM, Silicon Labs - Zero Gecko, QFN-24
pins: 1 PA0, 2 IOVDD, 3 PC0, 4 PC1, 5 PB7, 6 PB8, 7 ~{{RESET}}, 8 PB11, 9 AVDD, 10 PB13, 11 PB14, 12 AVDD, 13 PD6, 14 PD7, 15 VDD_DREG, 16 DECOUPLE, 17 PC14, 18 PC15, 19 PF0, 20 PF1, 21 PF2, 22 IOVDD, 23 PE12, 24 PE13, 25 VSS

## EFM32ZG108F8-B-QFN24
designator *  value EFM32ZG108F8-B-QFN24  Reference: U
32-bit ARM Cortex-M0 microcontroller, 8 kB flash, 2 kB  RAM, Silicon Labs - Zero Gecko, QFN-24; ki_keywords: MCU microcontroller silicon labs siliconlabs silabs EFM32 zero gecko; ki_fp_filters: QFN*1EP*5x5mm*P0.65mm*; Footprint: Package_DFN_QFN:QFN-24-1EP_5x5mm_P0.65mm_EP3.6x3.6mm; Datasheet: https://www.silabs.com/documents/public/data-sheets/efm32zg-datasheet.pdf; Description_: 32-bit ARM Cortex-M0 microcontroller, 8 kB flash, 2 kB  RAM, Silicon Labs - Zero Gecko, QFN-24
pins: 1 PA0, 2 IOVDD, 3 PC0, 4 PC1, 5 PB7, 6 PB8, 7 ~{{RESET}}, 8 PB11, 9 AVDD, 10 PB13, 11 PB14, 12 AVDD, 13 PD6, 14 PD7, 15 VDD_DREG, 16 DECOUPLE, 17 PC14, 18 PC15, 19 PF0, 20 PF1, 21 PF2, 22 IOVDD, 23 PE12, 24 PE13, 25 VSS

## EFM32ZG108F16-B-QFN24
designator *  value EFM32ZG108F16-B-QFN24  Reference: U
32-bit ARM Cortex-M0 microcontroller, 16 kB flash, 4 kB  RAM, Silicon Labs - Zero Gecko, QFN-24; ki_keywords: MCU microcontroller silicon labs siliconlabs silabs EFM32 zero gecko; ki_fp_filters: QFN*1EP*5x5mm*P0.65mm*; Footprint: Package_DFN_QFN:QFN-24-1EP_5x5mm_P0.65mm_EP3.6x3.6mm; Datasheet: https://www.silabs.com/documents/public/data-sheets/efm32zg-datasheet.pdf; Description_: 32-bit ARM Cortex-M0 microcontroller, 16 kB flash, 4 kB  RAM, Silicon Labs - Zero Gecko, QFN-24
pins: 1 PA0, 2 IOVDD, 3 PC0, 4 PC1, 5 PB7, 6 PB8, 7 ~{{RESET}}, 8 PB11, 9 AVDD, 10 PB13, 11 PB14, 12 AVDD, 13 PD6, 14 PD7, 15 VDD_DREG, 16 DECOUPLE, 17 PC14, 18 PC15, 19 PF0, 20 PF1, 21 PF2, 22 IOVDD, 23 PE12, 24 PE13, 25 VSS

## EFM32ZG108F32-B-QFN24
designator *  value EFM32ZG108F32-B-QFN24  Reference: U
32-bit ARM Cortex-M0 microcontroller, 32 kB flash, 4 kB  RAM, Silicon Labs - Zero Gecko, QFN-24; ki_keywords: MCU microcontroller silicon labs siliconlabs silabs EFM32 zero gecko; ki_fp_filters: QFN*1EP*5x5mm*P0.65mm*; Footprint: Package_DFN_QFN:QFN-24-1EP_5x5mm_P0.65mm_EP3.6x3.6mm; Datasheet: https://www.silabs.com/documents/public/data-sheets/efm32zg-datasheet.pdf; Description_: 32-bit ARM Cortex-M0 microcontroller, 32 kB flash, 4 kB  RAM, Silicon Labs - Zero Gecko, QFN-24
pins: 1 PA0, 2 IOVDD, 3 PC0, 4 PC1, 5 PB7, 6 PB8, 7 ~{{RESET}}, 8 PB11, 9 AVDD, 10 PB13, 11 PB14, 12 AVDD, 13 PD6, 14 PD7, 15 VDD_DREG, 16 DECOUPLE, 17 PC14, 18 PC15, 19 PF0, 20 PF1, 21 PF2, 22 IOVDD, 23 PE12, 24 PE13, 25 VSS

## EFM32ZG110F4-B-QFN24
designator *  value EFM32ZG110F4-B-QFN24  Reference: U
32-bit ARM Cortex-M0 microcontroller, 4 kB flash, 2 kB  RAM, Silicon Labs - Zero Gecko, QFN-24; ki_keywords: MCU microcontroller silicon labs siliconlabs silabs EFM32 zero gecko; ki_fp_filters: QFN*1EP*5x5mm*P0.65mm*; Footprint: Package_DFN_QFN:QFN-24-1EP_5x5mm_P0.65mm_EP3.6x3.6mm; Datasheet: https://www.silabs.com/documents/public/data-sheets/efm32zg-datasheet.pdf; Description_: 32-bit ARM Cortex-M0 microcontroller, 4 kB flash, 2 kB  RAM, Silicon Labs - Zero Gecko, QFN-24
pins: 1 PA0, 2 IOVDD, 3 PC0, 4 PC1, 5 PB7, 6 PB8, 7 ~{{RESET}}, 8 PB11, 9 AVDD, 10 PB13, 11 PB14, 12 AVDD, 13 PD6, 14 PD7, 15 VDD_DREG, 16 DECOUPLE, 17 PC14, 18 PC15, 19 PF0, 20 PF1, 21 PF2, 22 IOVDD, 23 PE12, 24 PE13, 25 VSS

## EFM32ZG110F8-B-QFN24
designator *  value EFM32ZG110F8-B-QFN24  Reference: U
32-bit ARM Cortex-M0 microcontroller, 8 kB flash, 2 kB  RAM, Silicon Labs - Zero Gecko, QFN-24; ki_keywords: MCU microcontroller silicon labs siliconlabs silabs EFM32 zero gecko; ki_fp_filters: QFN*1EP*5x5mm*P0.65mm*; Footprint: Package_DFN_QFN:QFN-24-1EP_5x5mm_P0.65mm_EP3.6x3.6mm; Datasheet: https://www.silabs.com/documents/public/data-sheets/efm32zg-datasheet.pdf; Description_: 32-bit ARM Cortex-M0 microcontroller, 8 kB flash, 2 kB  RAM, Silicon Labs - Zero Gecko, QFN-24
pins: 1 PA0, 2 IOVDD, 3 PC0, 4 PC1, 5 PB7, 6 PB8, 7 ~{{RESET}}, 8 PB11, 9 AVDD, 10 PB13, 11 PB14, 12 AVDD, 13 PD6, 14 PD7, 15 VDD_DREG, 16 DECOUPLE, 17 PC14, 18 PC15, 19 PF0, 20 PF1, 21 PF2, 22 IOVDD, 23 PE12, 24 PE13, 25 VSS

## EFM32ZG110F16-B-QFN24
designator *  value EFM32ZG110F16-B-QFN24  Reference: U
32-bit ARM Cortex-M0 microcontroller, 16 kB flash, 4 kB  RAM, Silicon Labs - Zero Gecko, QFN-24; ki_keywords: MCU microcontroller silicon labs siliconlabs silabs EFM32 zero gecko; ki_fp_filters: QFN*1EP*5x5mm*P0.65mm*; Footprint: Package_DFN_QFN:QFN-24-1EP_5x5mm_P0.65mm_EP3.6x3.6mm; Datasheet: https://www.silabs.com/documents/public/data-sheets/efm32zg-datasheet.pdf; Description_: 32-bit ARM Cortex-M0 microcontroller, 16 kB flash, 4 kB  RAM, Silicon Labs - Zero Gecko, QFN-24
pins: 1 PA0, 2 IOVDD, 3 PC0, 4 PC1, 5 PB7, 6 PB8, 7 ~{{RESET}}, 8 PB11, 9 AVDD, 10 PB13, 11 PB14, 12 AVDD, 13 PD6, 14 PD7, 15 VDD_DREG, 16 DECOUPLE, 17 PC14, 18 PC15, 19 PF0, 20 PF1, 21 PF2, 22 IOVDD, 23 PE12, 24 PE13, 25 VSS

## EFM32ZG110F32-B-QFN24
designator *  value EFM32ZG110F32-B-QFN24  Reference: U
32-bit ARM Cortex-M0 microcontroller, 32 kB flash, 4 kB  RAM, Silicon Labs - Zero Gecko, QFN-24; ki_keywords: MCU microcontroller silicon labs siliconlabs silabs EFM32 zero gecko; ki_fp_filters: QFN*1EP*5x5mm*P0.65mm*; Footprint: Package_DFN_QFN:QFN-24-1EP_5x5mm_P0.65mm_EP3.6x3.6mm; Datasheet: https://www.silabs.com/documents/public/data-sheets/efm32zg-datasheet.pdf; Description_: 32-bit ARM Cortex-M0 microcontroller, 32 kB flash, 4 kB  RAM, Silicon Labs - Zero Gecko, QFN-24
pins: 1 PA0, 2 IOVDD, 3 PC0, 4 PC1, 5 PB7, 6 PB8, 7 ~{{RESET}}, 8 PB11, 9 AVDD, 10 PB13, 11 PB14, 12 AVDD, 13 PD6, 14 PD7, 15 VDD_DREG, 16 DECOUPLE, 17 PC14, 18 PC15, 19 PF0, 20 PF1, 21 PF2, 22 IOVDD, 23 PE12, 24 PE13, 25 VSS

## EFR32xG23xxxxF512xM48
designator *  value EFR32xG23xxxxF512xM48  Reference: U
ARM M33 SubGHz Radio +20dBm 512K Flash 64KRAM Z-Wave QFN-48; ki_keywords: Z-Wave ARM MCU CM33 Radio 900MHz SoC Silicon Labs Silabs 32-bit CPU EFR32 EFR32ZG23 EFR32M23 EFR32FG23 EFR32SG23 Sidewalk; ki_fp_filters: *QFN*48*1EP*6x6mm*EP4.3*; Footprint: Package_DFN_QFN:QFN-48-1EP_6x6mm_P0.4mm_EP4.3x4.3mm; Datasheet: https://www.silabs.com/documents/public/data-sheets/efr32zg23-datasheet.pdf; Description_: ARM M33 SubGHz Radio +20dBm 512K Flash 64KRAM Z-Wave QFN-48; Information: https://drzwave.blog/2022/07/21/z-wave-800-gpio-decoder-ring/
pins: 1 PC00, 2 PC01, 3 PC02, 4 PC03, 5 PC04, 6 PC05, 7 PC06, 8 PC07, 9 PC08, 10 PC09, 11 HFXTAL_I, 12 HFXTAL_O, 13 ~{{RESET}}, 14 RFVDD, 15 RFVSS, 16 SUBG_I1, 17 SUBG_I0, 18 SUBG_O1, 19 SUBG_O0, 20 PAVDD, 21 PB03, 22 PB02, 23 PB01, 24 PB00, 25 PA00, 26 PA01_SWCLK, 27 PA02_SWDIO, 28 PA03_SWO, 29 PA04_TCLK, 30 PA05_TD1, 31 PA06_TD2, 32 PA07_TD3, 33 PA08_UTX, 34 PA09_URX, 35 PA10, 36 DECOUPLE, 37 VREGSW, 38 VREGVDD, 39 VREGVSS, 40 DVDD, 41 AVDD, 42 IOVDD, 43 PD05_PSYNC, 44 PD04_PDATA, 45 PD03, 46 PD02, 47 PD01_LFXI, 48 PD00_LFXO, 49 PAD
text: EM4WakeUp; MCU & SubGHz Radio; DEBUG